# Altium integrated library LM317.IntLib: 1 symbol
Pins are listed as number, name and electrical type; pins without a type are passive.

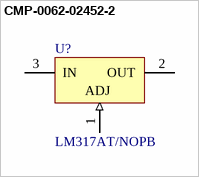
[diagram p0: symbol CMP-0062-02452-2]

## CMP-0062-02452-2
designator U?, comment LM317AT/NOPB
3-Terminal Adjustable Regulator, 3-pin TO-220, Pb-Free; Manufacturer: National Semiconductor; CompType: LDO IC; PowerWise: N; PackageTopMarking: NSUZXYTTE#*LM317AT P+; PackageReference: T03B; RoHS: Y; ComponentLink1Description: LM317 Datasheet; DatasheetVersion: Apr-2007; ComponentLink2Description: LM317 Web Page; ComponentLink3Description: T03B Package Page; PinCount: 3; ComponentLink3URL: http://www.national.com/packaging/folders/t03b.html; PackageDescription: TO-220, Molded, 3 Lead, Straight; ComponentLink2URL: http://www.national.com/pf/LM/LM317.html; PackageVersion: revL, Jan-1992; ComponentLink1URL: http://www.national.com/ds/LM/LM317.pdf; RevisionNote: Component URLs added
footprint T03B (TO, Thru-Hole, Vertical, Heatsink Mounted; 3 In-Line Leads; Pitch 2.54 mm)
pins: 1 ADJ (in), 2 OUT (power), 3 IN (power)